# Altium schematic symbol library Component_Library.SchLib: 8 symbols
Pins are listed as number, name and electrical type; pins without a type are passive.

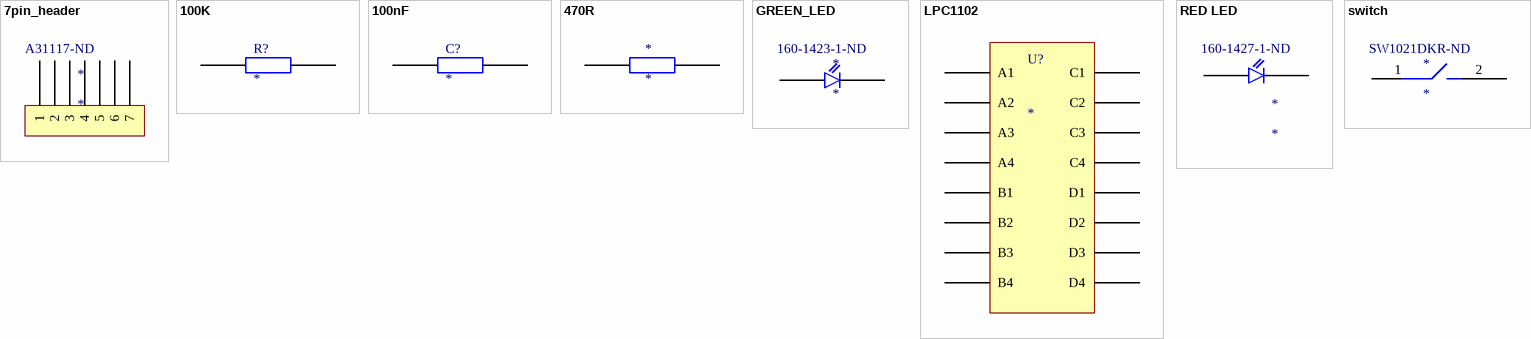
[diagram p0: symbols 7pin_header to switch]

## 7pin_header
designator *  Supplier Part Number 1: A31117-ND
Supplier 1: Digi-Key
pins: 1, 2, 3, 4, 5, 6, 7

## 100K
designator R?
Supplier 1: Digi-Key; Supplier Part Number 1: P100KADKR-ND
pins: 1, 2

## 100nF
designator C?
Supplier 1: Digi-Key; Supplier Part Number 1: 399-1167-1-ND
pins: 1, 2

## 470R
designator *
Supplier 1: Digi-Key; Supplier Part Number 1: RMCF0805JG470RCT-ND
pins: 1, 2

## GREEN_LED
designator *  Supplier Part Number 1: 160-1423-1-ND
Supplier 1: Digi-Key
footprint RED_LED_0805
pins: 1, 2

## LPC1102
designator U?
Supplier 1: Digi-Key; Supplier Part Number 1: 568-5141-1-ND
pins: A1, A2, A3, A4, B1, B2, B3, B4, C1, C2, C3, C4, D1, D2, D3, D4

## RED LED
designator *  Supplier Part Number 1: 160-1427-1-ND
Supplier 1: Digi-Key
pins: 1, 2

## switch
designator *  Supplier Part Number 1: SW1021DKR-ND
Supplier 1: Digi-Key
pins: 1, 2